# EAGLE library part BNO085 (library FaBo-Axis)
IMUs CEVA Accelerometer Gyroscope, Magnetometer, 9 Axis I2C, SPI, UART Voltage 1.7V~3.6V -40C~+85C 28LGA
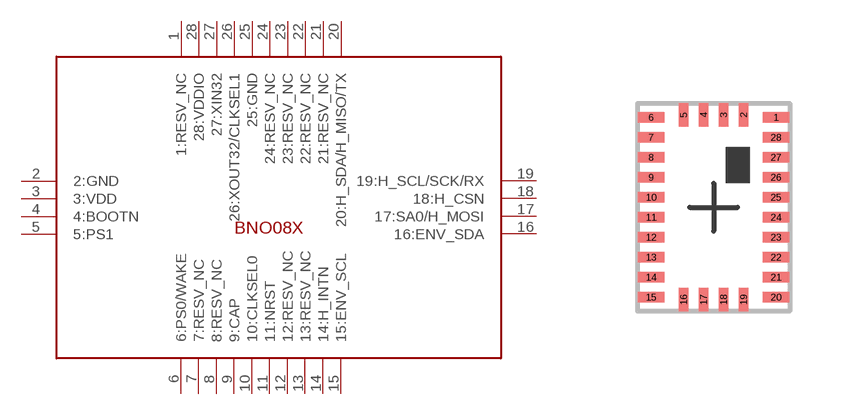
[diagram p15: symbol with the pads of BNO08X(LGA); footprint BNO08X(LGA)]

Designator prefix -

## BNO085  [BNO08X(LGA)]
1  1:RESV_NC  nc
2  2:GND  pwr
3  3:VDD  pwr
4  4:BOOTN  in
5  5:PS1  in
6  6:PS0/WAKE  in
7  7:RESV_NC  nc
8  8:RESV_NC  nc
9  9:CAP
10  10:CLKSEL0  in
11  11:NRST  in
12  12:RESV_NC  nc
13  13:RESV_NC  nc
14  14:H_INTN  out
15  15:ENV_SCL
16  16:ENV_SDA
17  17:SA0/H_MOSI  in
18  18:H_CSN  in
19  19:H_SCL/SCK/RX
20  20:H_SDA/H_MISO/TX
21  21:RESV_NC  nc
22  22:RESV_NC  nc
23  23:RESV_NC  nc
24  24:RESV_NC  nc
25  25:GND  pwr
26  26:XOUT32/CLKSEL1  out
27  27:XIN32  in
28  28:VDDIO  pwr

## Footprint BNO08X(LGA) (pad centres in mm)
smd 0.675 x 0.25: 1 1.562,2.25; 6 -1.562,2.25; 7 -1.562,1.75; 8 -1.562,1.25; 9 -1.562,0.75; 10 -1.562,0.25; 11 -1.562,-0.25; 12 -1.562,-0.75; 13 -1.562,-1.25; 14 -1.562,-1.75; 15 -1.562,-2.25; 20 1.562,-2.25; 21 1.562,-1.75; 22 1.562,-1.25; 23 1.562,-0.75; 24 1.562,-0.25; 25 1.562,0.25; 26 1.562,0.75; 27 1.562,1.25; 28 1.562,1.75
smd 0.25 x 0.575: 2 0.75,2.312; 3 0.25,2.312; 4 -0.25,2.312; 5 -0.75,2.312; 16 -0.75,-2.312; 17 -0.25,-2.312; 18 0.25,-2.312; 19 0.75,-2.312